# Altium footprint library DN2540.PcbLib: 1 footprints
Each footprint in its own frame and in the unit in brackets; x right, y up, seen from the top. Pads: shape width x height; smd on the part's side, far side on the other; paste and mask are expansions set on the pad; w line width, h text height; cw(c..) or ccw(c..) is an arc to the next point about the centre after c.
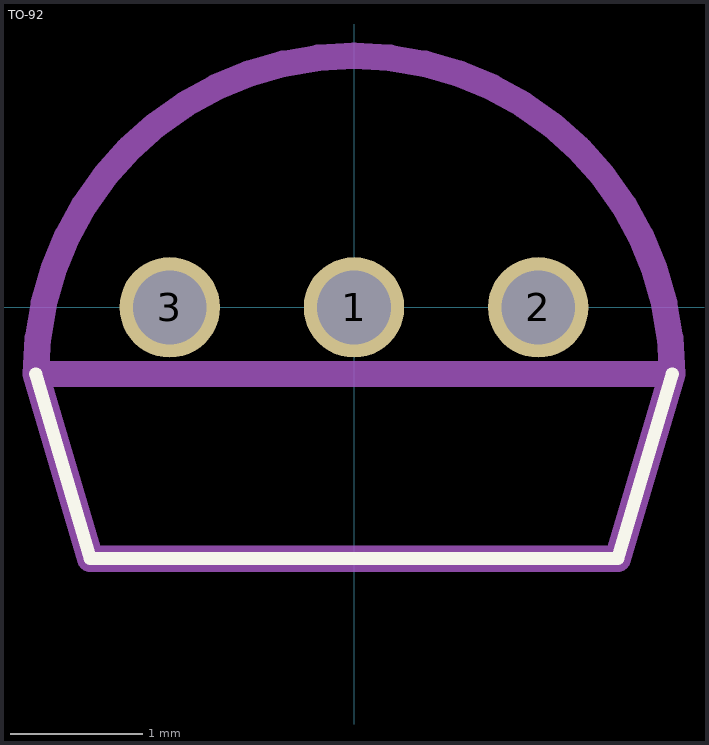
[diagram p0: the footprint, top view; thin cyan lines are the x and y axes]

## TO-92 [mil]
pads (3):
  round 30 hole 22: 1(0,0) 2(55,0) 3(-55,0)
Top Layer:
  text "S" at -130,-15 h25
  text "D" at 110,-15 h25
Top Overlay:
  lines w3.94: -95,-19.88 -78.74,-75 78.74,-75 95,-19.88
Mechanical 15:
  lines w7.87: -95,-19.88 cw(c0,-19.88) 95,-19.88 ; -95,-19.88 95,-19.88 ; -95,-19.88 -78.74,-75 78.74,-75 95,-19.88